# Altium footprint library SIP4_MM_CABLE_TRAMPA.PcbLib: 1 footprints
Each footprint in its own frame and in the unit in brackets; x right, y up, seen from the top. Pads: shape width x height; smd on the part's side, far side on the other; paste and mask are expansions set on the pad; w line width, h text height; cw(c..) or ccw(c..) is an arc to the next point about the centre after c.
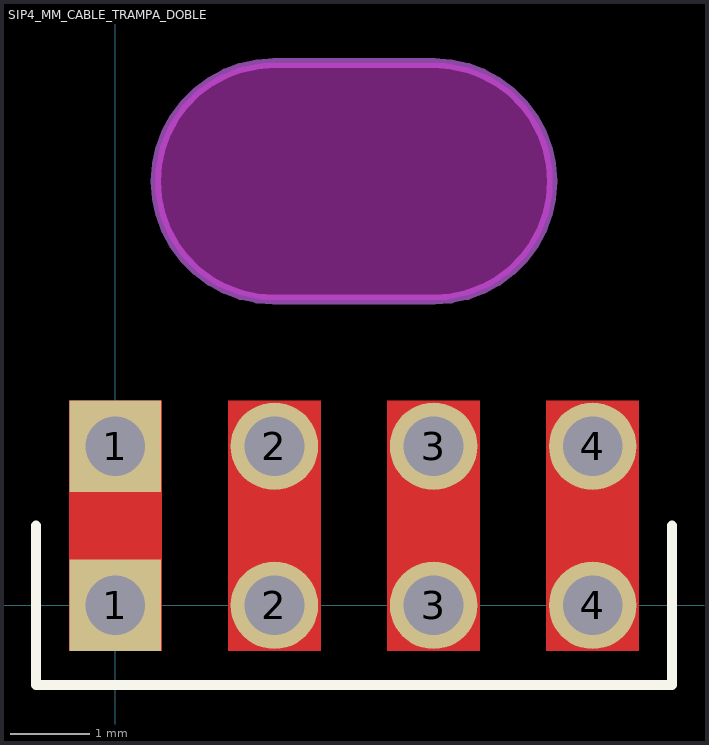
[diagram p0: the footprint, top view; thin cyan lines are the x and y axes]

## SIP4_MM_CABLE_TRAMPA_DOBLE [mm]
pads (8):
  rect 1.15x1.15 hole 0.75: 1(0,0) 1(0,2)
  round 1.1 hole 0.75: 2(2,0) 2(2,2) 3(4,0) 3(4,2) 4(6,0) 4(6,2)
Top Layer:
  rectangle: -0.584,-0.572 0.584,2.578
  rectangle: 1.416,-0.572 2.584,2.578
  rectangle: 3.416,-0.572 4.584,2.578
  rectangle: 5.416,-0.572 6.584,2.578
Top Overlay:
  lines w0.127: -1,1 -1,-1 7,-1 7,1
  text "." at -0.005,-1.519 h0.38
Keep-Out Layer:
  board cut-out: 1.994,6.817 1.848,6.817 1.56,6.76 1.29,6.648 1.047,6.485 0.84,6.278 0.677,6.035 0.565,5.764 0.508,5.477 0.508,5.331 0.508,5.184 0.565,4.897 0.677,4.627 0.84,4.383 1.047,4.177 1.29,4.014 1.56,3.902 1.848,3.845 1.994,3.845 4.006,3.845 4.152,3.845 4.44,3.902 4.71,4.014 4.953,4.177 5.16,4.383 5.323,4.627 5.435,4.897 5.492,5.184 5.492,5.331 5.492,5.477 5.435,5.764 5.323,6.035 5.16,6.278 4.953,6.485 4.71,6.648 4.44,6.76 4.152,6.817 4.006,6.817
Mechanical 4:
  lines w0.127: 1.994,3.845 cw(c1.994,5.331) 1.994,6.817 4.006,6.817 cw(c4.006,5.331) 4.006,3.845 1.994,3.845